# Altium schematic symbol library 2N7002.SchLib: 1 symbol
Pins are listed as number, name and electrical type; pins without a type are passive.

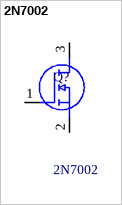
[diagram p0: symbol 2N7002]

## 2N7002
designator Q?
Voltage controlled small signal switch.; High density cell design for extremely low RDS(ON).; Rugged and Reliable.; High saturation current capability.; Manufacturer_Name: onsemi; Geometry.Height: 1.2mm; Mouser Part Number: 512-2N7002; Mouser Price/Stock: https://www.mouser.co.uk/ProductDetail/onsemi-Fairchild/2N7002?qs=0dwsXDNhqlz66WJJhrTFjQ%3D%3D; Manufacturer_Part_Number: 2N7002; Datasheet Link: https://www.onsemi.com/pub/Collateral/NDS7002A-D.PDF
footprint SOT96P240X120-3N
pins: 1 G, 2 S, 3 D